# Altium footprint library SO-16Wide.PcbLib: 1 footprints
Each footprint in its own frame and in the unit in brackets; x right, y up, seen from the top. Pads: shape width x height; smd on the part's side, far side on the other; paste and mask are expansions set on the pad; w line width, h text height; cw(c..) or ccw(c..) is an arc to the next point about the centre after c.
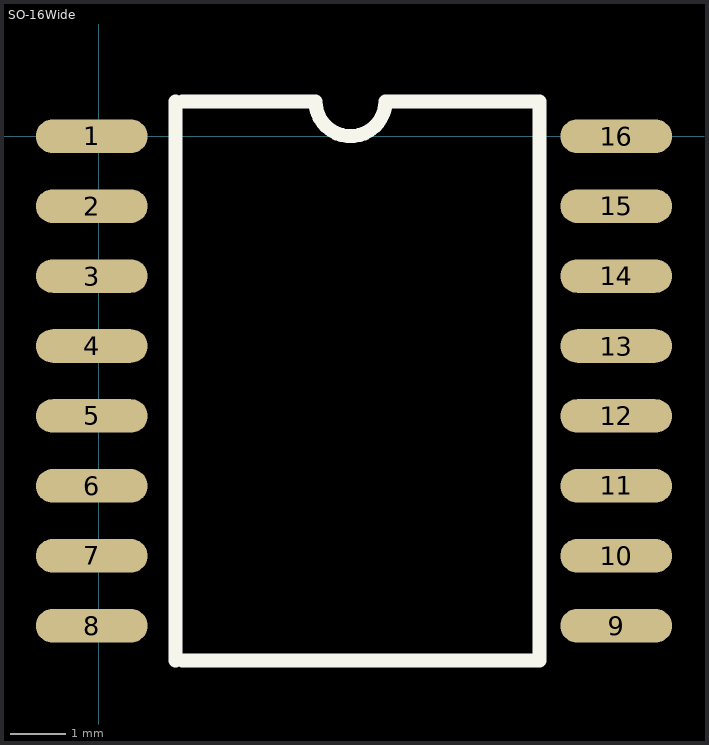
[diagram p0: the footprint, top view; thin cyan lines are the x and y axes]

## SO-16Wide [mil]
pads (16):
  oval 80x24 smd: 1(-5,0) 2(-5,-50) 3(-5,-100) 4(-5,-150) 5(-5,-200) 6(-5,-250) 7(-5,-300) 8(-5,-350) 9(370.02,-350) 10(370.02,-300) 11(370.02,-250) 12(370.02,-200) 13(370.02,-150) 14(370.02,-100) 15(370.02,-50) 16(370.02,0)
TopOverlay:
  lines w10: 55,-375 55,25 ; 60,-375 315,-375 315,25 205,25 cw(c180,25) 155,25 60,25
Mechanical4:
  text ".062" at -5,0 h1
3D body: height 137.8, standoff 0, extent -19.31,-375.51 386.2,26.06